# Altium schematic symbol library Schlib1.SchLib: 19 symbols
Pins are listed as number, name and electrical type; pins without a type are passive.

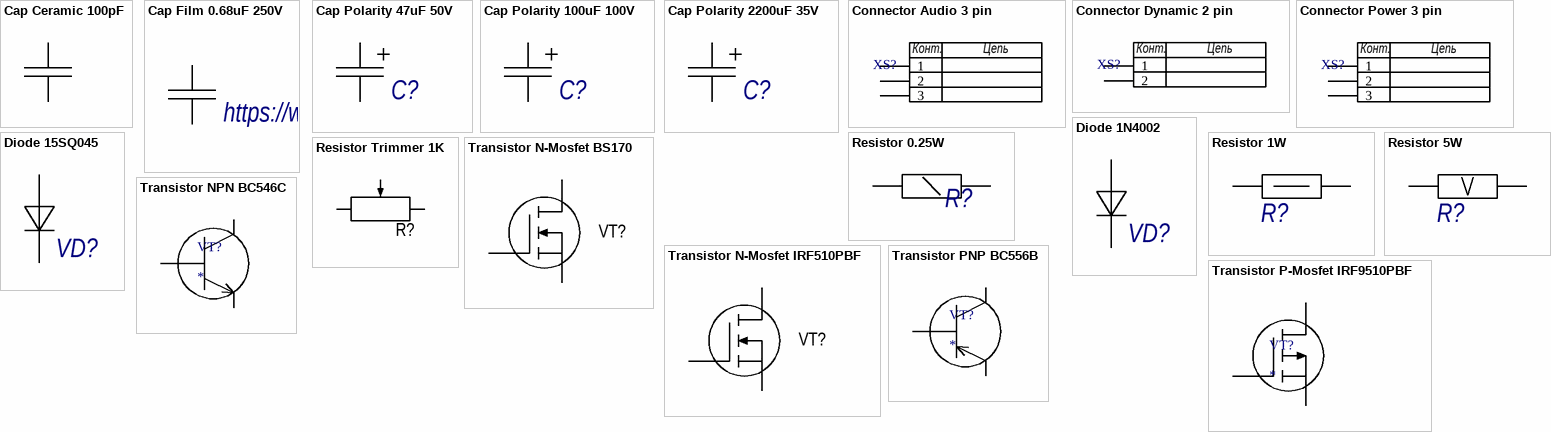
[diagram p0: symbols Cap Ceramic 100pF to Transistor PNP BC556B]

## Cap Ceramic 100pF
designator ?
Type: Конденсатор
footprint CAPRR508-350X500X500 (Capacitor Radial Rounded, Pin spacing 5.08mm - Body With 3.2mm X Body Length 5.0mm X Body Height 5.0mm)
pins: 1, 2

## Cap Film 0.68uF 250V
designator https://www.eetimes.com/ic-audio-power-amplifiers-and-zobel-networks-one-size-does-not-fit-all/, comment 2200uF 35V  (value not drawn)
Type: Конденсатор
footprint CAPR1000-400X1300X950 (Capacitor Radial, Pin spacing 10mm - Body With 4mm X Body Length 13mm X Body Height 9.5mm)
pins: 1, 2

## Cap Polarity 47uF 50V
designator C?, comment 2200uF 35V  (value not drawn)
Type: Конденсатор
footprint CAPPR350-800X700 (Capacitor, Radial, Pin spacing 3.5mm - Body Diameter 8mm X Body Height 7mm)
pins: 1, 2

## Cap Polarity 100uF 100V
designator C?, comment 100uF 100V  (value not drawn)
Type: Конденсатор
footprint CAPPR500-1000X2050 (Capacitor, Radial, Pin spacing 5.0mm - Body Diameter 10mm X Body Height 20.5mm)
pins: 1, 2

## Cap Polarity 2200uF 35V
designator C?, comment 2200uF 35V  (value not drawn)
Type: Конденсатор
footprint CAPPR750-1600X3150 (Capacitor, Radial, Pin spacing 7.5mm - Body Diameter 16mm X Body  Height 31.5mm)
pins: 1, 2

## Connector Audio 3 pin
designator XS?  (value not drawn)
footprint ST-025
pins: 1 "Информационный вход Х6", 2 "Информационный вход Х6", 3 "Информационный вход Х6"
text: Конт.; Цепь

## Connector Dynamic 2 pin
designator XS?  (value not drawn)
footprint 15EDGRC-3.81-02P (PCB Header, 8A, 160 V, Pitch: 3.81mm, 2 Positions, MCV Serie)
pins: 1 "Информационный вход Х6", 2 "Информационный вход Х6"
text: Конт.; Цепь

## Connector Power 3 pin
designator XS?  (value not drawn)
footprint 15EDGRC-3.81-03P (PCB Header, 8A, 160 V, Pitch: 3.81mm, 3 Positions, MCV Serie)
pins: 1 "Информационный вход Х6", 2 "Информационный вход Х6", 3 "Информационный вход Х6"
text: Конт.; Цепь

## Diode 1N4002
designator VD?  (value not drawn)
Type: Диод; Published: 18.05.2010; Publisher: Andrew Danich
footprint DO-41
pins: 1 А "Анод", 2 К "Катод"

## Diode 15SQ045
designator VD?  (value not drawn)
Type: Диод; Published: 18.05.2010; Publisher: Andrew Danich
footprint R6
pins: 1 А "Анод", 2 К "Катод"

## Resistor 0.25W
designator R?  (value not drawn)
Type: Резистор
footprint RES1016-630X250 (Resistor, Axial, Pad spacing 10.16 mm - Body Lengh 6.3mm X Body Diameter 2.5mm)
pins: 1, 2

## Resistor 1W
designator R?  (value not drawn)
Type: Резистор
footprint RES1651-1000X390 (Resistor, Axial, Pad spacing 16.51mm - Body Lengh 10mm X Body Diameter 3.9mm)
pins: 1, 2

## Resistor 5W
designator R?  (value not drawn)
Type: Резистор
footprint RES_5W (Resistor, Axial, Pad spacing 10.16 mm - Body Lengh 6.3mm X Body Diameter 2.5mm)
pins: 1, 2

## Resistor Trimmer 1K
designator R?
Manufacturer: Bourns; PartNumber: 3296W-1-103LF; TypeResistor: Resistor film; Power: 0.5W; Package: 3296W; HelpURL: https://www.digikey.com/product-detail/en/bourns-inc/3296W-1-103LF/3296W-103LF-ND/1088045; ValueManufacturerPartNumber: =TypeResistor+', '+Value+', '+Tolerance+', '+Package+', '+Power+', '+Temperature; Temperature: -55...+125°C
footprint TRIM_BOURNS_3296W (Trimming Potentiometer BOURNS 3296W Series)
pins: 1, 2, 3

## Transistor N-Mosfet BS170
designator VT?
footprint TO-92-A
pins: 1 D, 2 G, 3 S

## Transistor N-Mosfet IRF510PBF
designator VT?
footprint TO-220AB (КТ-28-2)
pins: 1 G, 2 D, 3 S

## Transistor NPN BC546C
designator VT?
footprint TO-92-A
pins: 1 К "Коллектор", 2 Б "База", 3 Э "Эмиттер"

## Transistor P-Mosfet IRF9510PBF
designator VT?
footprint TO-220AB (КТ-28-2)
pins: 1 G, 2 D, 3 S

## Transistor PNP BC556B
designator VT?
footprint TO-92-A
pins: 1 К "Коллектор", 2 Б "База", 3 Э "Эмиттер"